# Altium schematic symbol library EM3242.SchLib: 1 symbol
Pins are listed as number, name and electrical type; pins without a type are passive.

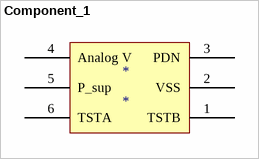
[diagram p0: symbol Component_1]

## Component_1
designator *
pins: 1 TSTB, 2 VSS, 3 PDN, 4 Analog V, 5 P_sup, 6 TSTA